# EAGLE library part HD-N100 (library display-hp)
LED DISPLAY 1-character 7 segment, decimal point left
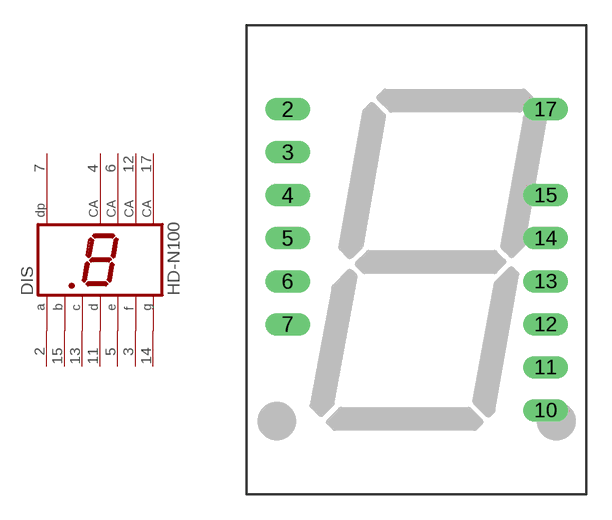
[diagram p8: symbol with the pads of HDSP-Q; footprint HDSP-Q]

Designator prefix DIS

## HD-N100 (OC_FARNELL: unknown; OC_NEWARK: unknown)  [HDSP-Q]
2  A  pas
3  F  pas
4  CA  pas
5  E  pas
6  CA  pas
7  DP  pas
11  D  pas
12  CA  pas
13  C  pas
14  G  pas
15  B  pas
17  CA  pas

## Footprint HDSP-Q (pad centres in mm)
LED DISPLAY 20-mm 1 character 7 segment, 2 decimal points
drill 0.813 long: 2 -7.62,8.89; 3 -7.62,6.35; 4 -7.62,3.81; 5 -7.62,1.27; 6 -7.62,-1.27; 7 -7.62,-3.81; 10 7.62,-8.89; 11 7.62,-6.35; 12 7.62,-3.81; 13 7.62,-1.27; 14 7.62,1.27; 15 7.62,3.81; 17 7.62,8.89